# Altium footprint library PCB RADAR.PcbLib: 19 footprints (part 2 of 2)
Each footprint in its own frame and in the unit in brackets; x right, y up, seen from the top. Pads: shape width x height; smd on the part's side, far side on the other; paste and mask are expansions set on the pad; w line width, h text height; cw(c..) or ccw(c..) is an arc to the next point about the centre after c.
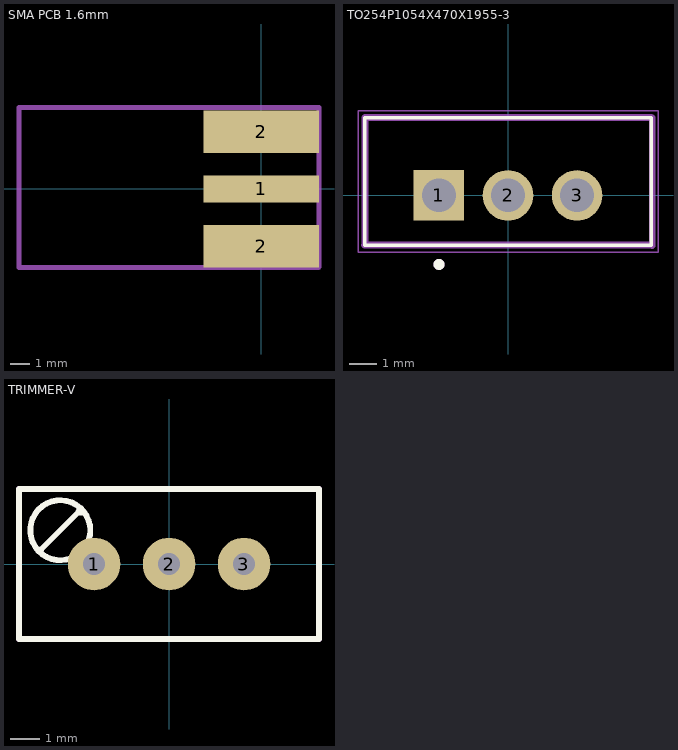
[diagram p1: the footprints below, top view; thin cyan lines are the x and y axes]

## SMA PCB 1.6mm [mm]
pads (3):
  rect 6x1.4 smd: 1(0,0)
  rect 6x2.2 smd: 2(0,-2.975) 2(0,2.975)
Top Assembly (Mech29):
  lines w0.254: -12.598,4.242 -12.598,-4.089 2.972,-4.089 2.997,-4.064 2.997,4.242 -12.522,4.242
  text "'.Designator'" at -7.823,-0.914 h3
3D body: height 22.91, standoff 16.56, extent -5.312,1.804 -5.312,1.804
3D body "User Library-620-SMA-02-112-TGG SMA Female for PCB edge Mount.STEP": height 3.46, standoff -2.59, extent -12.521,-3 1.079,3

## TO254P1054X470X1955-3 [mm]
pads (3):
  rect 1.86x1.86 hole 1.24: 1(-2.54,0)
  round 1.86 hole 1.24: 2(0,0) 3(2.54,0)
Top Overlay:
  circle w0.2: c-2.54,-2.54 r0.1
  lines w0.127: -5.27,-1.84 -5.27,2.86 5.27,2.86 5.27,-1.84 -5.27,-1.84
Mechanical 13:
  circle w0.2: c-2.54,-2.54 r0.1
  lines w0.127: -5.27,-1.84 -5.27,2.86 5.27,2.86 5.27,-1.84 -5.27,-1.84
Mechanical 15:
  lines w0.05: -5.52,-2.09 -5.52,3.11 5.52,3.11 5.52,-2.09 -5.52,-2.09
Top Assembly (Mech29):
  lines w0.254: -5.283,-1.829 -5.258,-1.803 -5.258,2.87 5.283,2.87 5.309,2.845 5.309,-1.854 5.283,-1.829 -5.283,-1.829
  text "'.Designator'" at -1.778,-0.762 h3
  text "." at -2.692,-0.076 h3
3D body "User Library-TO220-B PCB.STEP": height 15.69, standoff -7.99, extent -4.95,-1.812 4.95,3.425

## TRIMMER-V [mil] "Ajuste vertical, Largo: 400mil (10.16mm), Ancho: 200mil (5.08mm)"
pads (3):
  round 70 hole 29.53: 1(-100,0) 2(0,0) 3(100,0)
Top Overlay:
  circle w7.87: c-145,45 r40
  lines w7.87: -170,20 -120,70 ; -200,-100 200,-100 200,100 -200,100 -200,-100
  lines w10: -120,70 -115,70
Top Assembly (Mech29):
  lines w7.87: -200,-100 200,-100 200,100 -200,100 -200,-100
  text "'.Designator'" at -137,-81 h118.11
3D body: height 50, standoff -50, extent -50,80 -50,80
3D body "3296w-1-502lf.stp": height 454.59, standoff -118.5, extent -188,-97.99 188,92.29